# EAGLE library part FSBB30CH60 (library fairchild-semic)
Smart Power Module 600V-30A IGBT inverter for three-phase DC/AC power conversion Source: http://www.fairchildsemi.com/ds/FS/FSBB30CH60.pdf
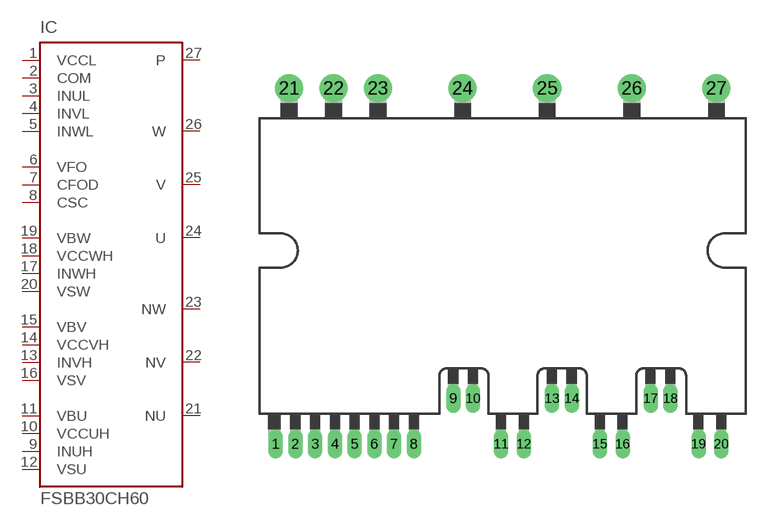
[diagram p1: symbol with the pads of FSBB30CH60; footprint FSBB30CH60]

Designator prefix IC

## FSBB30CH60  [FSBB30CH60]
1  VCCL  pwr
2  COM  pwr
3  INUL  in
4  INVL  in
5  INWL  in
6  VFO  out
7  CFOD  pas
8  CSC  pas
9  INUH  in
10  VCCUH  in
11  VBU  in
12  VSU  in
13  INVH  in
14  VCCVH  in
15  VBV  in
16  VSV  in
17  INWH  in
18  VCCWH  in
19  VBW  in
20  VSW  in
21  NU  in
22  NV  in
23  NW  in
24  U  out
25  V  out
26  W  out
27  P  in

## Footprint FSBB30CH60 (pad centres in mm)
SPM27-EA UL Certified No.E209204 Source: http://www.fairchildsemi.com/ds/FS/FSBB30CH60.pdf
drill 0.8 pad 1.27 long: 1 -20.447,-16; 2 -18.669,-16; 3 -16.891,-16; 4 -15.113,-16; 5 -13.335,-16; 6 -11.557,-16; 7 -9.779,-16; 8 -8.001,-16; 9 -4.445,-11.9; 10 -2.667,-11.9; 11 -0.136,-16; 12 1.914,-16; 13 4.445,-11.9; 14 6.223,-11.9; 15 8.754,-16; 16 10.804,-16; 17 13.335,-11.9; 18 15.113,-11.9; 19 17.644,-16; 20 19.694,-16
drill 1.5 pad 2.54 round: 21 -19.24,16; 22 -15.24,16; 23 -11.24,16; 24 -3.62,16; 25 4,16; 26 11.62,16; 27 19.24,16